# EAGLE library part MCP4561 (library Skoba)
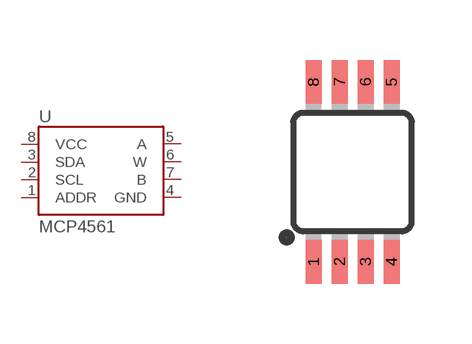
[diagram p21: symbol with the pads of MSOP8; footprint MSOP8]

Designator prefix U

## MCP4561  [MSOP8]
1  ADDR
2  SCL
3  SDA
4  GND
5  A
6  W
7  B
8  VCC

## Footprint MSOP8 (pad centres in mm)
8M, 8-Lead, 0.118" Wide, Miniature Small Outline Package MSOP 8M-Package doc1097.pdf
smd 0.4 x 1.1: 1 -0.975,-2.25; 2 -0.325,-2.25; 3 0.325,-2.25; 4 0.975,-2.25; 5 0.975,2.25; 6 0.325,2.25; 7 -0.325,2.25; 8 -0.975,2.25